# EAGLE library part CON-AMP-MICROMATCH_MICROMATCH-8 (library ledd3)
MicroMaTch 8 7-215464-8 / 0-215464-8 Drawing Number C-215464 DDEController.pdf
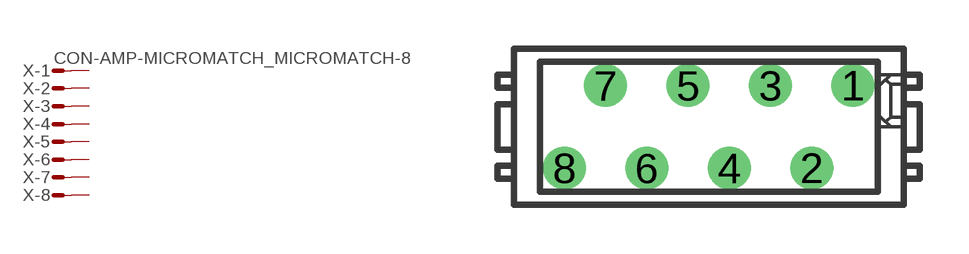
[diagram p1: symbol with the pads of CON-AMP-MICROMATCH_MICROMATCH-8; footprint CON-AMP-MICROMATCH_MICROMATCH-8]

Designator prefix X; gates -1=CON-AMP-MICROMATCH_MV -2=CON-AMP-MICROMATCH_M -3=CON-AMP-MICROMATCH_M -4=CON-AMP-MICROMATCH_M -5=CON-AMP-MICROMATCH_M -6=CON-AMP-MICROMATCH_M -7=CON-AMP-MICROMATCH_M -8=CON-AMP-MICROMATCH_M

## CON-AMP-MICROMATCH_MICROMATCH-8 (MF: FARNELL; MPN: 7-215464-8; OC_FARNELL: 3784642; OC_NEWARK: 26H0301)  [CON-AMP-MICROMATCH_MICROMATCH-8]
1  -1:S  pas
2  -2:S  pas
3  -3:S  pas
4  -4:S  pas
5  -5:S  pas
6  -6:S  pas
7  -7:S  pas
8  -8:S  pas

## Footprint CON-AMP-MICROMATCH_MICROMATCH-8 (pad centres in mm)
MicroMaTch 8 7-215464-8 / 0-215464-8 Drawing Number C-215464 DDEController.pdf
drill 0.813: 1 4.445,1.27; 2 3.175,-1.27; 3 1.905,1.27; 4 0.635,-1.27; 5 -0.635,1.27; 6 -1.905,-1.27; 7 -3.175,1.27; 8 -4.445,-1.27